# EAGLE library part BTS730 (library mosfet-infineon)
BTS730 Smart High-Side Power Switch, R(ON) 70mOhm SOIC127P1030X265-20N-1
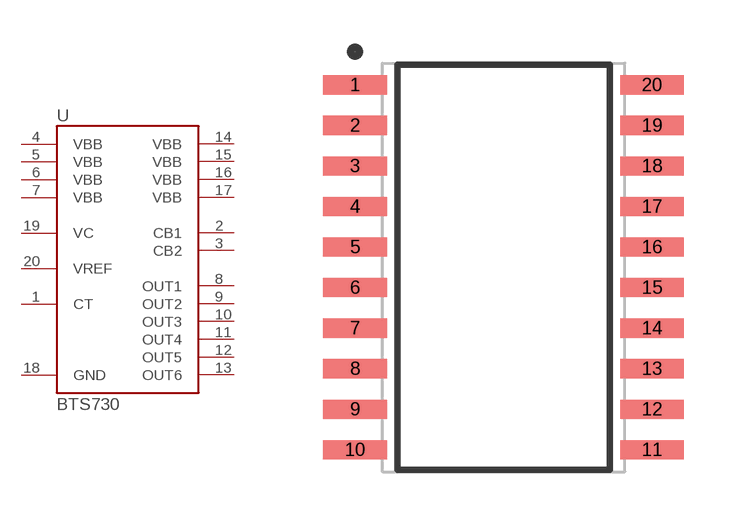
[diagram p26: symbol with the pads of SOIC127P1030X265-20N-1; footprint SOIC127P1030X265-20N-1]

Designator prefix U

## BTS730  [SOIC127P1030X265-20N-1]
1  CT  in
2  CB1  pas
3  CB2  pas
4  VBB  pwr
5  VBB  pwr
6  VBB  pwr
7  VBB  pwr
8  OUT1  out
9  OUT2  out
10  OUT3  out
11  OUT4  out
12  OUT5  out
13  OUT6  out
14  VBB  pwr
15  VBB  pwr
16  VBB  pwr
17  VBB  pwr
18  GND  pwr
19  VC  pwr
20  VREF  pwr

## Footprint SOIC127P1030X265-20N-1 (pad centres in mm)
Original name SOIC127P1030X265-20N-1 Max Component Height - 2.65mm
smd 2 x 0.6: 1 -4.65,5.715; 2 -4.65,4.445; 3 -4.65,3.175; 4 -4.65,1.905; 5 -4.65,0.635; 6 -4.65,-0.635; 7 -4.65,-1.905; 8 -4.65,-3.175; 9 -4.65,-4.445; 10 -4.65,-5.715; 11 4.65,-5.715; 12 4.65,-4.445; 13 4.65,-3.175; 14 4.65,-1.905; 15 4.65,-0.635; 16 4.65,0.635; 17 4.65,1.905; 18 4.65,3.175; 19 4.65,4.445; 20 4.65,5.715